# EAGLE library part C12880MA (library C12880MA)
Mini Spectrometer
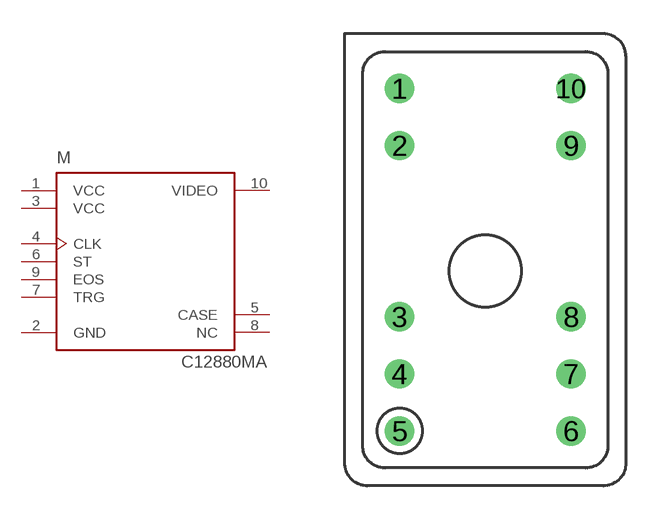
[diagram p0: symbol with the pads of C12880MA; footprint C12880MA]

Designator prefix M

## C12880MA  [C12880MA]
1  VCC  pwr
2  GND  pwr
3  VCC  pwr
4  CLK  in
5  CASE  pas
6  ST  in
7  TRG  out
8  NC  nc
9  EOS  out
10  VIDEO  out

## Footprint C12880MA (pad centres in mm)
drill 0.8: 1 -3.81,7.62; 2 -3.81,5.08; 3 -3.81,-2.54; 4 -3.81,-5.08; 5 -3.81,-7.62; 6 3.81,-7.62; 7 3.81,-5.08; 8 3.81,-2.54; 9 3.81,5.08; 10 3.81,7.62